# EAGLE library part SH7010TA (library sh7010TA)
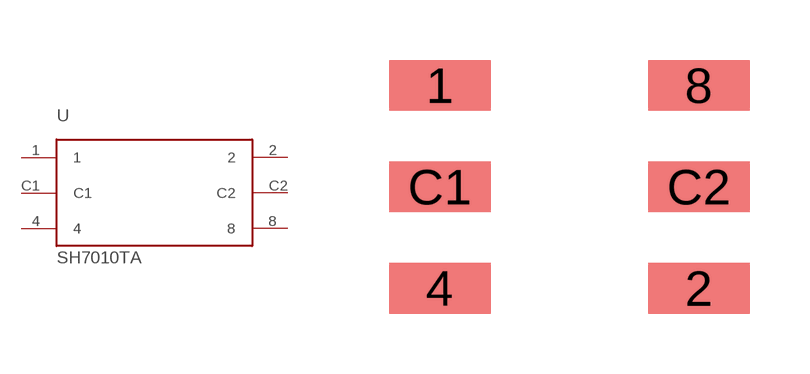
[diagram p0: symbol with the pads of SWTICH-6; footprint SWTICH-6]

Designator prefix -

## SH7010TA (DIGIKEY: 563-1207-2-ND)  [SWTICH-6]
1  1
2  2
4  4
8  8
C1  C1
C2  C2

## Footprint SWTICH-6 (pad centres in mm)
smd 2.54 x 1.27: 1 0,2.54; 2 6.477,-2.54; 4 0,-2.54; 8 6.477,2.54; C1 0,0; C2 6.477,0